# Altium footprint library XL6009.PcbLib: 1 footprints
Each footprint in its own frame and in the unit in brackets; x right, y up, seen from the top. Pads: shape width x height; smd on the part's side, far side on the other; paste and mask are expansions set on the pad; w line width, h text height; cw(c..) or ccw(c..) is an arc to the next point about the centre after c.
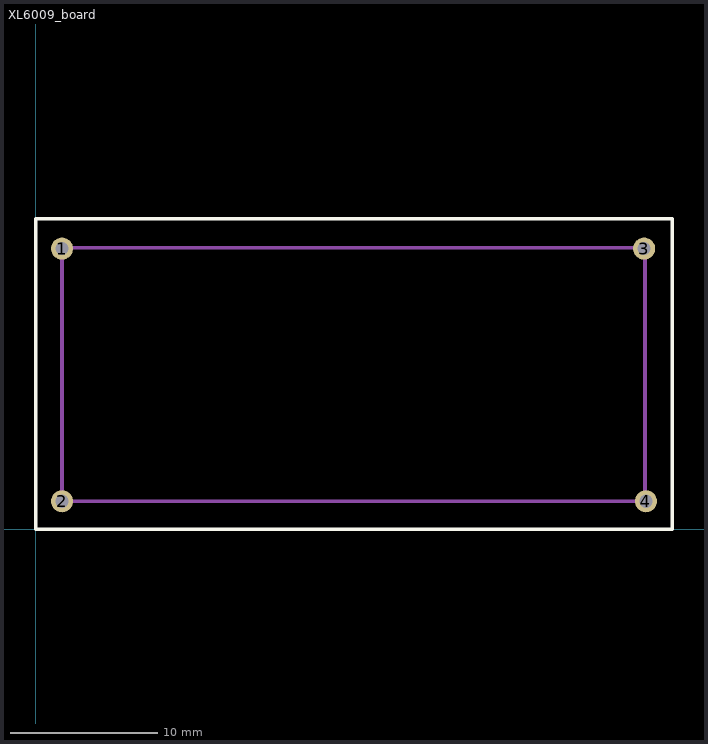
[diagram p0: the footprint, top view; thin cyan lines are the x and y axes]

## XL6009_board [mm]
pads (4):
  round 1.5 hole 0.9: 1(1.778,19.05) 2(1.778,1.905) 3(41.275,19.05) 4(41.402,1.905)
Top Overlay:
  lines w0.25: 0,0 43.18,0 43.18,21.082 0,21.082 0,0
Mechanical 1:
  lines w0.25: 1.778,1.968 1.778,19.113 41.275,19.113 ; 1.841,1.905 41.338,1.905 41.338,19.05